# Altium integrated library TL072CDR.IntLib: 1 symbol
Pins are listed as number, name and electrical type; pins without a type are passive.

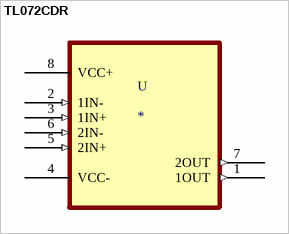
[diagram p0: symbol TL072CDR]

## TL072CDR
designator U
J-FET Amplifier 2 Circuit 8-SOIC; MF: Texas Instruments; MP: TL072CDR; Package: SOIC-8 Texas Instruments; Value: *; Price: None; Availability: Unavailable; SnapEDA_Link: https://www.snapeda.com/parts/TL072CDR/Texas%20Instruments/view-part/100795/?ref=snap
footprint SOIC127P600X175-8N
pins: 1 1OUT (out), 2 1IN- (in), 3 1IN+ (in), 4 VCC-, 5 2IN+ (in), 6 2IN- (in), 7 2OUT (out), 8 VCC+ (power)